# Altium integrated library 107SML016M.IntLib: 2 symbols
Pins are listed as number, name and electrical type; pins without a type are passive.

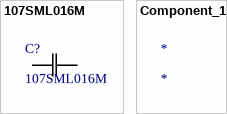
[diagram p0: symbols 107SML016M to Component_1]

## 107SML016M
designator C?
No Description Available; Mfr_Name: Cornell Dubilier; Type: DEV; Copyright: Copyright (C) 2023 Ultra Librarian. All rights reserved.; Manufacturer_Part_Number: 107SML016M; RefDes: RefDes
footprint CAP_107SML016M_CND
pins: 1, 2

## Component_1
designator *